# Altium schematic symbol library CS42448.SchLib: 1 symbol
Pins are listed as number, name and electrical type; pins without a type are passive.

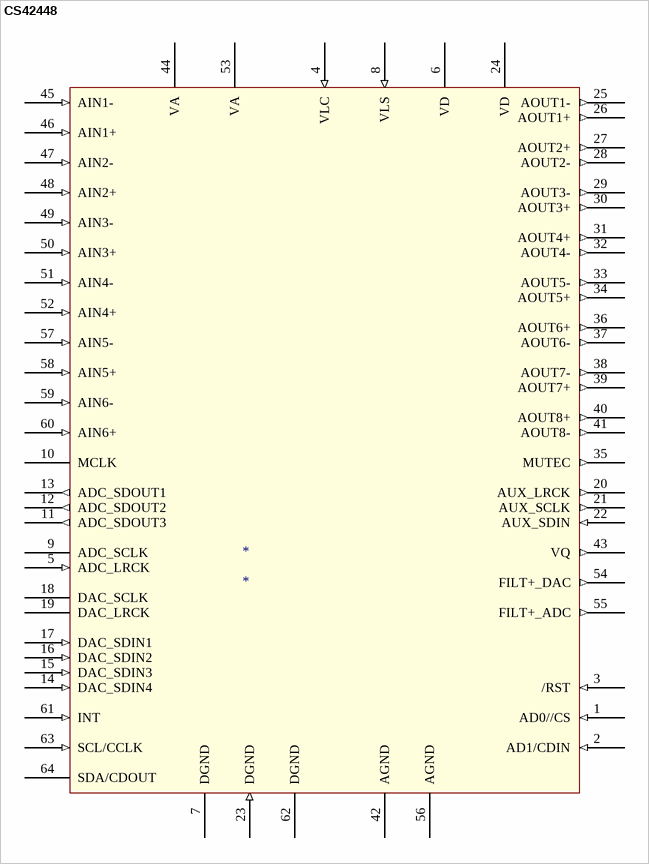
[diagram p0: symbol CS42448]

## CS42448
designator *
footprint QFN50P1200X1200-64V1L-MOD (QFN, 64-Leads, Body 12x12mm, Pitch 0.5mm, IPC High Density, MOD)
pins: 1 AD0//CS (in), 2 AD1/CDIN (in), 3 /RST (in), 4 VLC (in), 5 ADC_LRCK (in), 6 VD, 7 DGND, 8 VLS (in), 9 ADC_SCLK, 10 MCLK, 11 ADC_SDOUT3 (out), 12 ADC_SDOUT2 (out), 13 ADC_SDOUT1 (out), 14 DAC_SDIN4 (in), 15 DAC_SDIN3 (in), 16 DAC_SDIN2 (in), 17 DAC_SDIN1 (in), 18 DAC_SCLK, 19 DAC_LRCK, 20 AUX_LRCK (out), 21 AUX_SCLK (out), 22 AUX_SDIN (in), 23 DGND (in), 24 VD, 25 AOUT1- (out), 26 AOUT1+ (out), 27 AOUT2+ (out), 28 AOUT2- (out), 29 AOUT3- (out), 30 AOUT3+ (out), 31 AOUT4+ (out), 32 AOUT4- (out), 33 AOUT5- (out), 34 AOUT5+ (out), 35 MUTEC (out), 36 AOUT6+ (out), 37 AOUT6- (out), 38 AOUT7- (out), 39 AOUT7+ (out), 40 AOUT8+ (out), 41 AOUT8- (out), 42 AGND, 43 VQ (out), 44 VA, 45 AIN1- (in), 46 AIN1+ (in), 47 AIN2- (in), 48 AIN2+ (in), 49 AIN3- (in), 50 AIN3+ (in), 51 AIN4- (in), 52 AIN4+ (in), 53 VA, 54 FILT+_DAC (out), 55 FILT+_ADC (out), 56 AGND, 57 AIN5- (in), 58 AIN5+ (in), 59 AIN6- (in), 60 AIN6+ (in), 61 INT (in), 62 DGND, 63 SCL/CCLK (in), 64 SDA/CDOUT